# Altium integrated library TACTILE_SWITCHES.IntLib: 1 symbol
Pins are listed as number, name and electrical type; pins without a type are passive.

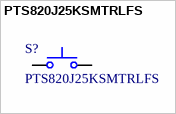
[diagram p0: symbol PTS820J25KSMTRLFS]

## PTS820J25KSMTRLFS
designator S?
C&K Series-PTS Tactile Switch PTS820 J25K SMTR LFS; Manufacturer: ITT C&K; Mechanical Life: 100000Cycles; Operating Force: 250gf; Throw Configuration: SPST; Current Rating: 50mA; Voltage Rating (DC): 12V; Illumination Type: Non-Illuminated; Switch Travel: 0.2mm; Switch Function: Off-Mom; Actuator Type: Standard; Supplier: Digi-Key; Supplier Part Number: CKN10897CT-ND; Manufacturer Part Number: PTS820J25KSMTRLFS; RoHS: Yes; Category: Tactile Switches; Stock: 22784; Pricing: 1=0.53000, 10=0.51500, 25=0.49640, 100=0.42950, 250=0.39132, 500=0.36270, 1000=0.32451 (USD); Mounting Technology: Surface Mount; Color: Black; Contact Plating: Silver; Min Operating Temperature: -40°C; Max Operating Temperature: 85°C; Packaging: Tape and Reel; Package Quantity: 2300; Series: PTS820; RoHS Compliant: Yes; ComponentLink1URL: https://datasheet.ciiva.com/24079/pts820-4mar13-248116-24079446.pdf?src-supplier=Mouser; ComponentLink1Description: https://datasheet.ciiva.com/24079/pts820-4mar13-248116-24079446.pdf?src-supplier=Mouser; Supplier 1: Digi-Key; Supplier Part Number 1: CKN10897CT-ND; Supplier 2: Mouser; Supplier Part Number 2: 611-PTS820J25KSMTR
footprint PTS820J25KSMTRLFS (C&K Series-PTS Tactile Switch PTS820 J25K SMTR LFS)
pins: 1, 2